# Altium footprint library ArduinoMEGA.PcbLib: 1 footprints
Each footprint in its own frame and in the unit in brackets; x right, y up, seen from the top. Pads: shape width x height; smd on the part's side, far side on the other; paste and mask are expansions set on the pad; w line width, h text height; cw(c..) or ccw(c..) is an arc to the next point about the centre after c.
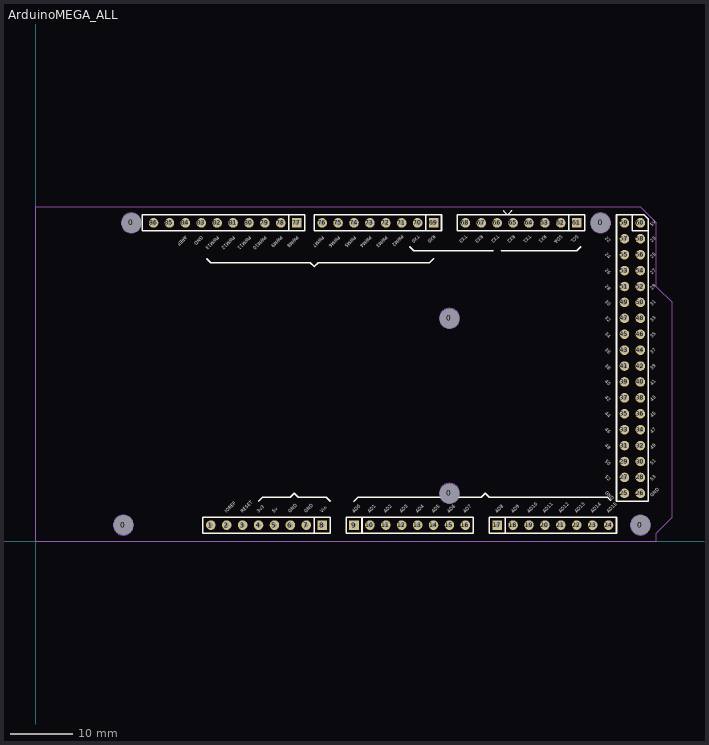
[diagram p0: the footprint, top view; thin cyan lines are the x and y axes]

## ArduinoMEGA_ALL [mil]
pads (92):
  round 62.99 hole 125.98: 0(550,100) 0(600,2000) 0(2600,300) 0(2600,1400) 0(3550,2000) 0(3800,100)
  round 60 hole 30: 1(1100,100) 2(1200,100) 3(1300,100) 4(1400,100) 5(1500,100) 6(1600,100) 7(1700,100) 10(2100,100) 11(2200,100) 12(2300,100) 13(2400,100) 14(2500,100) 15(2600,100) 16(2700,100) 18(3000,100) 19(3100,100) 20(3200,100) 21(3300,100) 22(3400,100) 23(3500,100) 24(3600,100) 25(3700,300) 26(3800,300) 27(3700,400) 28(3800,400) 29(3700,500) 30(3800,500) 31(3700,600) 32(3800,600) 33(3700,700) 34(3800,700) 35(3700,800) 36(3800,800) 37(3700,900) 38(3800,900) 39(3700,1000) 40(3800,1000) 41(3700,1100) 42(3800,1100) 43(3700,1200) 44(3800,1200) 45(3700,1300) 46(3800,1300) 47(3700,1400) 48(3800,1400) 49(3700,1500) 50(3800,1500) 51(3700,1600) 52(3800,1600) 53(3700,1700) 54(3800,1700) 55(3700,1800) 56(3800,1800) 57(3700,1900) 58(3800,1900) 59(3700,2000) 60(3800,2000) 62(3300,2000) 63(3200,2000) 64(3100,2000) 65(3000,2000) 66(2900,2000) 67(2800,2000) 68(2700,2000) 70(2400,2000) 71(2300,2000) 72(2200,2000) 73(2100,2000) 74(2000,2000) 75(1900,2000) 76(1800,2000) 78(1540,2000) 79(1440,2000) 80(1340,2000) 81(1240,2000) 82(1140,2000) 83(1040,2000) 84(940,2000) 85(840,2000) 86(740,2000)
  rect 60x60 hole 30: 8(1800,100) 9(2000,100) 17(2900,100) 61(3400,2000) 69(2500,2000) 77(1640,2000)
Top Overlay:
  lines w10: 1075,1775 1100,1750 1725,1750 1750,1725 1775,1750 2475,1750 2500,1775 ; 1400,250 1425,275 1600,275 1625,300 1650,275 1825,275 1850,250 ; 1590,1950 1590,2050 ; 2000,250 2025,275 2800,275 2825,300 2850,275 3592.93,275 3612.7,255.23 ; 2050,50 2050,150 ; 2350,1850 2375,1825 2875,1825 ; 2450,1950 2450,2050 ; 2925,1825 3400,1825 3425,1850 ; 2940,2075 2965,2050 2990,2075 ; 2950,50 2950,150 ; 3350,1950 3350,2050 ; 3750,2050 3750,1950 3850,1950 ; 1750,50 1850,50 1850,100 1850,150 1750,150 ; 1750,50 1050,50 1050,150 1750,150 ; 1750,50 1750,150 ; 670,1950 670,2050 1690,2050 1690,1950 670,1950 ; 1750,1950 1750,2050 2550,2050 2550,1950 1750,1950 ; 1950,50 2750,50 2750,150 1950,150 1950,50 ; 2650,1950 2650,2050 3450,2050 3450,1950 2650,1950 ; 2850,50 3650,50 3650,150 2850,150 2850,50 ; 3650,250 3850,250 3850,2025 3825,2050 3650,2050 3650,250
  text "AREF" at 940,1920 h20
  text "GND" at 1040,1920 h20
  text "PWM13" at 1140,1920 h20
  text "PWM12" at 1240,1920 h20
  text "PWM11" at 1340,1920 h20
  text "PWM10" at 1440,1920 h20
  text "PWM9" at 1540,1920 h20
  text "PWM8" at 1640,1920 h20
  text "PWM7" at 1800,1917.93 h20
  text "PWM6" at 1900,1917.93 h20
  text "PWM5" at 2000,1917.93 h20
  text "PWM4" at 2100,1917.93 h20
  text "PWM3" at 2200,1917.93 h20
  text "PWM2" at 2300,1925 h20
  text "TX0" at 2400,1925 h20
  text "TX3" at 2700,1925 h20
  text "RX3" at 2800,1925 h20
  text "TX2" at 2900,1925 h20
  text "RX2" at 3000,1925 h20
  text "TX1" at 3100,1925 h20
  text "RX1" at 3200,1925 h20
  text "SDA" at 3300,1925 h20
  text "GND" at 3875,275 h20
  text "53" at 3875,375 h20
  text "51" at 3875,475 h20
  text "49" at 3875,575 h20
  text "47" at 3875,675 h20
  text "45" at 3875,775 h20
  text "43" at 3875,875 h20
  text "41" at 3875,975 h20
  text "39" at 3875,1075 h20
  text "37" at 3875,1175 h20
  text "35" at 3875,1275 h20
  text "33" at 3875,1375 h20
  text "31" at 3875,1475 h20
  text "29" at 3875,1575 h20
  text "27" at 3875,1675 h20
  text "25" at 3875,1775 h20
  text "23" at 3875,1875 h20
  text "5V" at 3875,1975 h20
  text "50" at 3575,500 h20
  text "GND" at 3575,300 h20
  text "52" at 3575,400 h20
  text "48" at 3575,600 h20
  text "46" at 3575,700 h20
  text "44" at 3575,800 h20
  text "42" at 3575,900 h20
  text "40" at 3575,1000 h20
  text "38" at 3575,1100 h20
  text "36" at 3575,1200 h20
  text "34" at 3575,1300 h20
  text "32" at 3575,1400 h20
  text "30" at 3575,1500 h20
  text "28" at 3575,1600 h20
  text "26" at 3575,1700 h20
  text "24" at 3575,1800 h20
  text "22" at 3575,1900 h20
  text "5V" at 3575,2000 h20
  text "SCL" at 3400,1925 h20
  text "RX0" at 2500,1925 h20
  text "AD15" at 3600,175 h20
  text "AD14" at 3500,175 h20
  text "AD13" at 3400,175 h20
  text "AD12" at 3300,175 h20
  text "AD11" at 3200,175 h20
  text "AD10" at 3100,175 h20
  text "AD9" at 3000,175 h20
  text "AD8" at 2900,175 h20
  text "AD7" at 2700,175 h20
  text "AD6" at 2600,175 h20
  text "AD5" at 2500,175 h20
  text "AD4" at 2400,175 h20
  text "AD3" at 2300,175 h20
  text "AD2" at 2200,175 h20
  text "AD1" at 2100,175 h20
  text "AD0" at 2000,175 h20
  text "Vin" at 1800,175 h20
  text "GND" at 1700,175 h20
  text "GND" at 1600,175 h20
  text "5v" at 1500,175 h20
  text "3v3" at 1400,175 h20
  text "RESET" at 1300,175 h20
  text "IOREF" at 1200,175 h20
Mechanical 1:
  circle w5: c600,2000 r62.99
  circle w5: c2600,300 r62.99
  circle w5: c550,100 r62.99
  circle w5: c2600,1400 r62.99
  circle w5: c3550,2000 r62.99
  circle w5: c3800,100 r62.99
  lines w5: 0,0 3900,0 3900,50 4000,150 4000,1500 3900,1600 3900,2000 3800,2100 0,2100 0,0
3D body "SIL_Socket08_.stp": height 334.65, standoff -584.65, extent 2850,50.01 3650,150.01
3D body "SIL_Socket08_.stp": height 334.65, standoff -584.65, extent 1950,50.01 2750,150.01
3D body "SIL_Socket06.stp": height 334.65, standoff -584.65, extent 1249.99,49.99 1849.99,149.99
3D body "SIL_Socket08_.stp": height 334.65, standoff -584.65, extent 1749.99,1949.99 2549.99,2049.99
3D body "SIL_Socket36.stp": height 334.65, standoff -584.65, extent 3650,250 3850,2050
3D body "SIL_Socket08_.stp": height 334.65, standoff -584.65, extent 890,1949.99 1690,2049.99
3D body "SIL_Socket08_.stp": height 334.65, standoff -584.65, extent 2650,1949.99 3450,2049.99